# Altium schematic symbol library XT9S20ANA12M.SchLib: 1 symbol
Pins are listed as number, name and electrical type; pins without a type are passive.

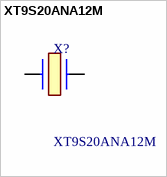
[diagram p0: symbol XT9S20ANA12M]

## XT9S20ANA12M
designator X?
Crystals 12MHz 20pF; Manufacturer_Name: Vishay; Geometry.Height: 3.5mm; Mouser Part Number: 73-XT49S1200-20; Mouser Price/Stock: https://www.mouser.co.uk/ProductDetail/Vishay-Dale/XT9S20ANA12M?qs=dEWVFCiHFQU3RvQOkgKjqw%3D%3D; Manufacturer_Part_Number: XT9S20ANA12M; Datasheet Link: *
footprint XT9S20ANA12M
pins: 1, 2